# Altium schematic symbol library SCH - DIODES - TVS_SMAJ22CA.SCHLIB: 1 symbol
Pins are listed as number, name and electrical type; pins without a type are passive.

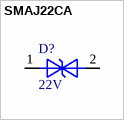
[diagram p0: symbol SMAJ22CA]

## SMAJ22CA
designator D?, comment 22V
Diode, TVS, Bi, 22V; Manufacturer: Bourns; Manufacturer Part Number: SMAJ22CA; Polarity: Bidirectional; Category: tvs; Package: SMA; Supplier 1: Mouser; Supplier Part Number 1: 652-SMAJ22CA; Mounting Style: SMT; Pins: 2; Voltage: 22V; Created: 2020_09_21_MGremer
footprint SMAJ22CAR3
pins: 1, 2